# EAGLE library part MCP1725-3302E/SN (library stopwatch)
Low Quiescent Current LDO Regulator
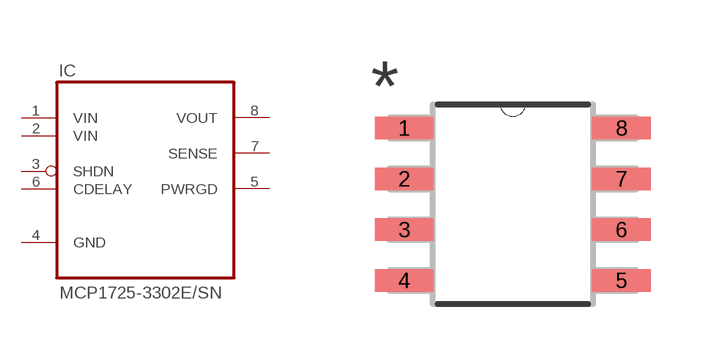
[diagram p7: symbol with the pads of SOIC127P600X175-8N; footprint SOIC127P600X175-8N]

Designator prefix IC

## MCP1725-3302E/SN (MPN: MCP1725-3302E/SN; OC_FARNELL: 1439383; OC_NEWARK: 58M8879; PACKAGE: SOIC-8; SUPPLIER: Microchip)  [SOIC127P600X175-8N]
1  VIN  pwr
2  VIN  pwr
3  SHDN  in
4  GND  pas
5  PWRGD  out
6  CDELAY  in
7  SENSE  in
8  VOUT  pwr

## Footprint SOIC127P600X175-8N (pad centres in mm)
smd 1.473 x 0.559: 1 -2.718,1.905; 2 -2.718,0.635; 3 -2.718,-0.635; 4 -2.718,-1.905; 5 2.718,-1.905; 6 2.718,-0.635; 7 2.718,0.635; 8 2.718,1.905